# Altium schematic symbol library DSP_Microchip_DSPIC33.SchLib: 19 symbols
Pins are listed as number, name and electrical type; pins without a type are passive.

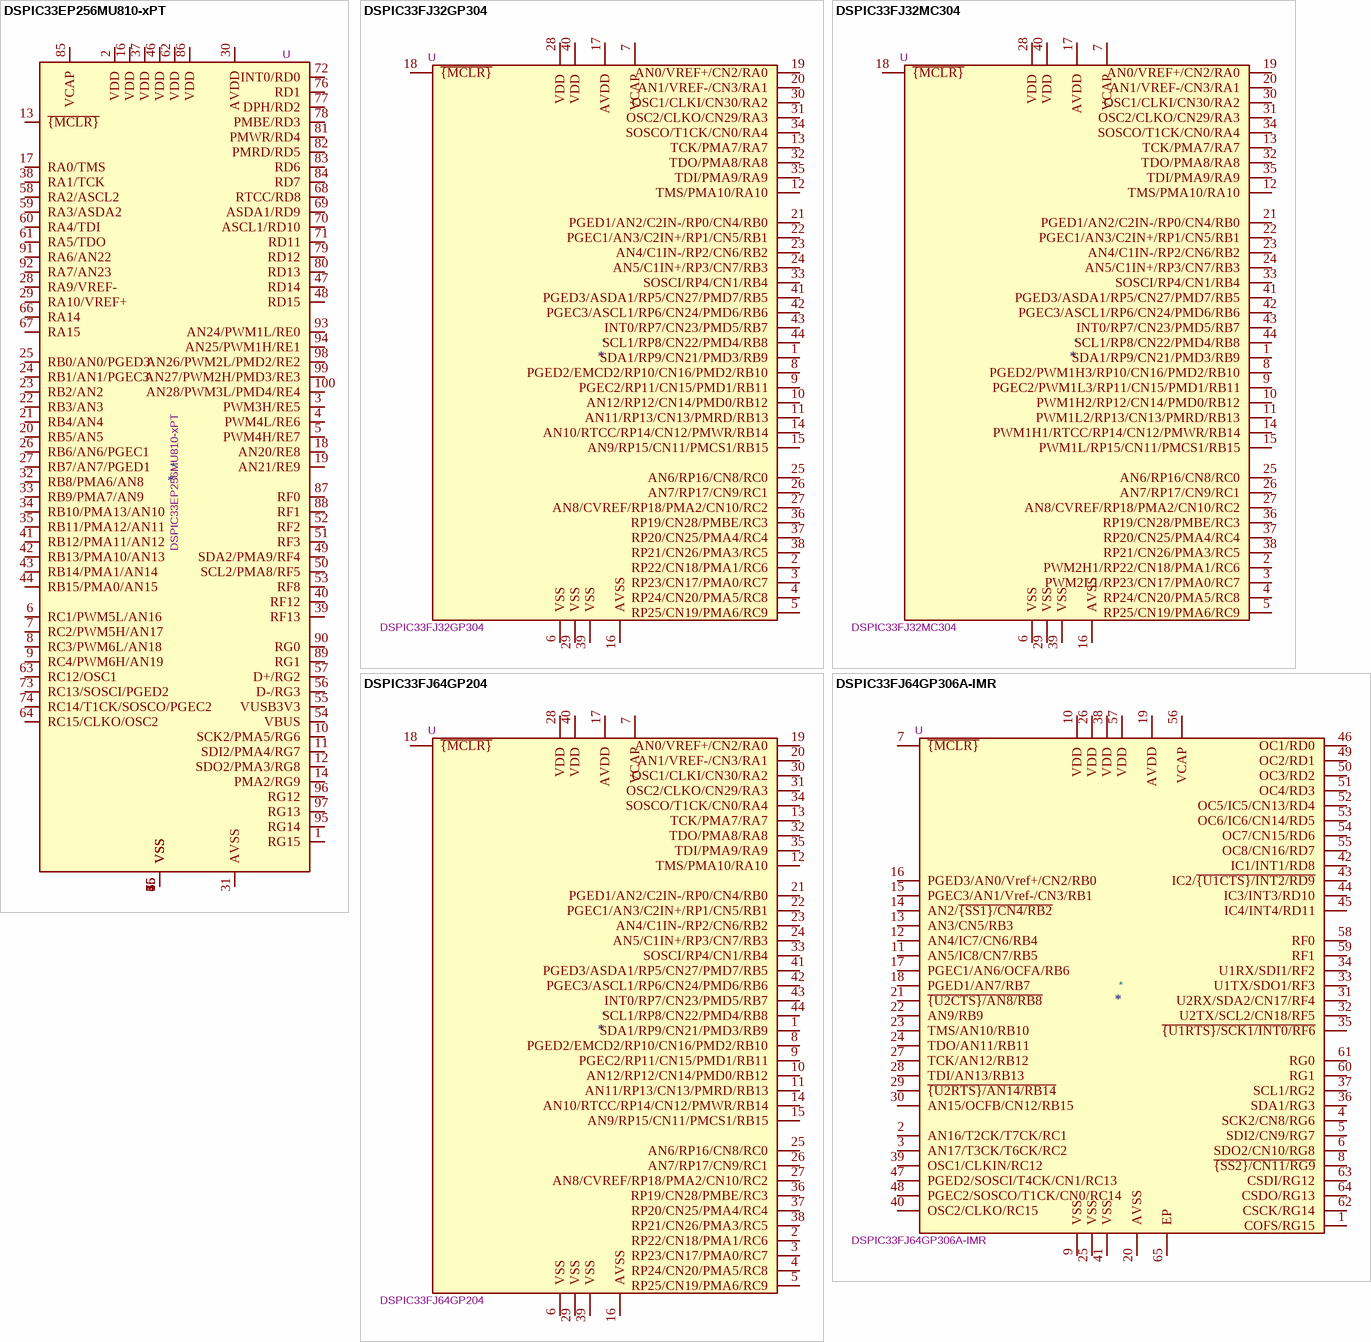
[diagram p0: symbols DSPIC33EP256MU810-xPT to DSPIC33FJ64GP306A-IMR]

## DSPIC33EP256MU810-xPT
designator *  value DSPIC33EP256MU810-xPT  Reference: U
High-Performance, 16-bit Digital Signal Controller, 40MIPS, 256k Flash, 30k SRAM, TQFP-100; ki_keywords: 16-bit Digital Signal Controller Microchip dsPIC; ki_fp_filters: TQFP*14x14mm*P0.5mm*; Footprint: Package_QFP:TQFP-100_14x14mm_P0.5mm; Datasheet: http://ww1.microchip.com/downloads/en/DeviceDoc/70616g.pdf; Description_: High-Performance, 16-bit Digital Signal Controller, 40MIPS, 256k Flash, 30k SRAM, TQFP-100
pins: 1 RG15, 2 VDD, 3 PWM3H/RE5, 4 PWM4L/RE6, 5 PWM4H/RE7, 6 RC1/PWM5L/AN16, 7 RC2/PWM5H/AN17, 8 RC3/PWM6L/AN18, 9 RC4/PWM6H/AN19, 10 SCK2/PMA5/RG6, 11 SDI2/PMA4/RG7, 12 SDO2/PMA3/RG8, 13 ~{{MCLR}}, 14 PMA2/RG9, 15 VSS, 16 VDD, 17 RA0/TMS, 18 AN20/RE8, 19 AN21/RE9, 20 RB5/AN5, 21 RB4/AN4, 22 RB3/AN3, 23 RB2/AN2, 24 RB1/AN1/PGEC3, 25 RB0/AN0/PGED3, 26 RB6/AN6/PGEC1, 27 RB7/AN7/PGED1, 28 RA9/VREF-, 29 RA10/VREF+, 30 AVDD, 31 AVSS, 32 RB8/PMA6/AN8, 33 RB9/PMA7/AN9, 34 RB10/PMA13/AN10, 35 RB11/PMA12/AN11, 36 VSS, 37 VDD, 38 RA1/TCK, 39 RF13, 40 RF12, 41 RB12/PMA11/AN12, 42 RB13/PMA10/AN13, 43 RB14/PMA1/AN14, 44 RB15/PMA0/AN15, 45 VSS, 46 VDD, 47 RD14, 48 RD15, 49 SDA2/PMA9/RF4, 50 SCL2/PMA8/RF5, 51 RF3, 52 RF2, 53 RF8, 54 VBUS, 55 VUSB3V3, 56 D-/RG3, 57 D+/RG2, 58 RA2/ASCL2, 59 RA3/ASDA2, 60 RA4/TDI, 61 RA5/TDO, 62 VDD, 63 RC12/OSC1, 64 RC15/CLKO/OSC2, 65 VSS, 66 RA14, 67 RA15, 68 RTCC/RD8, 69 ASDA1/RD9, 70 ASCL1/RD10, 71 RD11, 72 INT0/RD0, 73 RC13/SOSCI/PGED2, 74 RC14/T1CK/SOSCO/PGEC2, 75 VSS, 76 RD1, 77 DPH/RD2, 78 PMBE/RD3, 79 RD12, 80 RD13, 81 PMWR/RD4, 82 PMRD/RD5, 83 RD6, 84 RD7, 85 VCAP, 86 VDD, 87 RF0, 88 RF1, 89 RG1, 90 RG0, 91 RA6/AN22, 92 RA7/AN23, 93 AN24/PWM1L/RE0, 94 AN25/PWM1H/RE1, 95 RG14, 96 RG12, 97 RG13, 98 AN26/PWM2L/PMD2/RE2, 99 AN27/PWM2H/PMD3/RE3, 100 AN28/PWM3L/PMD4/RE4

## DSPIC33FJ32GP304
designator *  value DSPIC33FJ32GP304  Reference: U
40MIPS, 32k Flash, 4k SRAM; ki_keywords: 16-bit Digital Signal Controller Microchip dsPIC; ki_fp_filters: QFN?44*1EP*8x8mm*P0.65mm* TQFP?44*10x10mm*P0.8mm*; Datasheet: http://ww1.microchip.com/downloads/en/DeviceDoc/70292G.pdf; Description_: 40MIPS, 32k Flash, 4k SRAM
pins: 1 SDA1/RP9/CN21/PMD3/RB9, 2 RP22/CN18/PMA1/RC6, 3 RP23/CN17/PMA0/RC7, 4 RP24/CN20/PMA5/RC8, 5 RP25/CN19/PMA6/RC9, 6 VSS, 7 VCAP, 8 PGED2/EMCD2/RP10/CN16/PMD2/RB10, 9 PGEC2/RP11/CN15/PMD1/RB11, 10 AN12/RP12/CN14/PMD0/RB12, 11 AN11/RP13/CN13/PMRD/RB13, 12 TMS/PMA10/RA10, 13 TCK/PMA7/RA7, 14 AN10/RTCC/RP14/CN12/PMWR/RB14, 15 AN9/RP15/CN11/PMCS1/RB15, 16 AVSS, 17 AVDD, 18 ~{{MCLR}}, 19 AN0/VREF+/CN2/RA0, 20 AN1/VREF-/CN3/RA1, 21 PGED1/AN2/C2IN-/RP0/CN4/RB0, 22 PGEC1/AN3/C2IN+/RP1/CN5/RB1, 23 AN4/C1IN-/RP2/CN6/RB2, 24 AN5/C1IN+/RP3/CN7/RB3, 25 AN6/RP16/CN8/RC0, 26 AN7/RP17/CN9/RC1, 27 AN8/CVREF/RP18/PMA2/CN10/RC2, 28 VDD, 29 VSS, 30 OSC1/CLKI/CN30/RA2, 31 OSC2/CLKO/CN29/RA3, 32 TDO/PMA8/RA8, 33 SOSCI/RP4/CN1/RB4, 34 SOSCO/T1CK/CN0/RA4, 35 TDI/PMA9/RA9, 36 RP19/CN28/PMBE/RC3, 37 RP20/CN25/PMA4/RC4, 38 RP21/CN26/PMA3/RC5, 39 VSS, 40 VDD, 41 PGED3/ASDA1/RP5/CN27/PMD7/RB5, 42 PGEC3/ASCL1/RP6/CN24/PMD6/RB6, 43 INT0/RP7/CN23/PMD5/RB7, 44 SCL1/RP8/CN22/PMD4/RB8

## DSPIC33FJ32MC304
designator *  value DSPIC33FJ32MC304  Reference: U
40MIPS, 32k Flash, 8k SRAM; ki_keywords: 16-bit Digital Signal Controller Microchip dsPIC Motor Control; ki_fp_filters: QFN?44*1EP*8x8mm*P0.65mm* TQFP?44*10x10mm*P0.8mm*; Datasheet: http://ww1.microchip.com/downloads/en/DeviceDoc/70291G.pdf; Description_: 40MIPS, 32k Flash, 8k SRAM
pins: 1 SDA1/RP9/CN21/PMD3/RB9, 2 PWM2H1/RP22/CN18/PMA1/RC6, 3 PWM2L1/RP23/CN17/PMA0/RC7, 4 RP24/CN20/PMA5/RC8, 5 RP25/CN19/PMA6/RC9, 6 VSS, 7 VCAP, 8 PGED2/PWM1H3/RP10/CN16/PMD2/RB10, 9 PGEC2/PWM1L3/RP11/CN15/PMD1/RB11, 10 PWM1H2/RP12/CN14/PMD0/RB12, 11 PWM1L2/RP13/CN13/PMRD/RB13, 12 TMS/PMA10/RA10, 13 TCK/PMA7/RA7, 14 PWM1H1/RTCC/RP14/CN12/PMWR/RB14, 15 PWM1L/RP15/CN11/PMCS1/RB15, 16 AVSS, 17 AVDD, 18 ~{{MCLR}}, 19 AN0/VREF+/CN2/RA0, 20 AN1/VREF-/CN3/RA1, 21 PGED1/AN2/C2IN-/RP0/CN4/RB0, 22 PGEC1/AN3/C2IN+/RP1/CN5/RB1, 23 AN4/C1IN-/RP2/CN6/RB2, 24 AN5/C1IN+/RP3/CN7/RB3, 25 AN6/RP16/CN8/RC0, 26 AN7/RP17/CN9/RC1, 27 AN8/CVREF/RP18/PMA2/CN10/RC2, 28 VDD, 29 VSS, 30 OSC1/CLKI/CN30/RA2, 31 OSC2/CLKO/CN29/RA3, 32 TDO/PMA8/RA8, 33 SOSCI/RP4/CN1/RB4, 34 SOSCO/T1CK/CN0/RA4, 35 TDI/PMA9/RA9, 36 RP19/CN28/PMBE/RC3, 37 RP20/CN25/PMA4/RC4, 38 RP21/CN26/PMA3/RC5, 39 VSS, 40 VDD, 41 PGED3/ASDA1/RP5/CN27/PMD7/RB5, 42 PGEC3/ASCL1/RP6/CN24/PMD6/RB6, 43 INT0/RP7/CN23/PMD5/RB7, 44 SCL1/RP8/CN22/PMD4/RB8

## DSPIC33FJ64GP204
designator *  value DSPIC33FJ64GP204  Reference: U
40MIPS, 64k Flash, 8k SRAM; ki_keywords: 16-bit Digital Signal Controller Microchip dsPIC; ki_fp_filters: QFN?44*1EP*8x8mm*P0.65mm* TQFP?44*10x10mm*P0.8mm*; Datasheet: http://ww1.microchip.com/downloads/en/DeviceDoc/70292G.pdf; Description_: 40MIPS, 64k Flash, 8k SRAM
pins: 1 SDA1/RP9/CN21/PMD3/RB9, 2 RP22/CN18/PMA1/RC6, 3 RP23/CN17/PMA0/RC7, 4 RP24/CN20/PMA5/RC8, 5 RP25/CN19/PMA6/RC9, 6 VSS, 7 VCAP, 8 PGED2/EMCD2/RP10/CN16/PMD2/RB10, 9 PGEC2/RP11/CN15/PMD1/RB11, 10 AN12/RP12/CN14/PMD0/RB12, 11 AN11/RP13/CN13/PMRD/RB13, 12 TMS/PMA10/RA10, 13 TCK/PMA7/RA7, 14 AN10/RTCC/RP14/CN12/PMWR/RB14, 15 AN9/RP15/CN11/PMCS1/RB15, 16 AVSS, 17 AVDD, 18 ~{{MCLR}}, 19 AN0/VREF+/CN2/RA0, 20 AN1/VREF-/CN3/RA1, 21 PGED1/AN2/C2IN-/RP0/CN4/RB0, 22 PGEC1/AN3/C2IN+/RP1/CN5/RB1, 23 AN4/C1IN-/RP2/CN6/RB2, 24 AN5/C1IN+/RP3/CN7/RB3, 25 AN6/RP16/CN8/RC0, 26 AN7/RP17/CN9/RC1, 27 AN8/CVREF/RP18/PMA2/CN10/RC2, 28 VDD, 29 VSS, 30 OSC1/CLKI/CN30/RA2, 31 OSC2/CLKO/CN29/RA3, 32 TDO/PMA8/RA8, 33 SOSCI/RP4/CN1/RB4, 34 SOSCO/T1CK/CN0/RA4, 35 TDI/PMA9/RA9, 36 RP19/CN28/PMBE/RC3, 37 RP20/CN25/PMA4/RC4, 38 RP21/CN26/PMA3/RC5, 39 VSS, 40 VDD, 41 PGED3/ASDA1/RP5/CN27/PMD7/RB5, 42 PGEC3/ASCL1/RP6/CN24/PMD6/RB6, 43 INT0/RP7/CN23/PMD5/RB7, 44 SCL1/RP8/CN22/PMD4/RB8

## DSPIC33FJ64GP306A-IMR
designator *  value DSPIC33FJ64GP306A-IMR  Reference: U
40MIPS, 64k Flash, 16k SRAM, QFN-64; ki_keywords: 16-bit Digital Signal Controller Microchip dsPIC; ki_fp_filters: QFN*9x9mm*P0.5mm*; Footprint: Package_DFN_QFN:QFN-64-1EP_9x9mm_P0.5mm_EP5.4x5.4mm; Datasheet: http://ww1.microchip.com/downloads/en/DeviceDoc/70593d.pdf; Description_: 40MIPS, 64k Flash, 16k SRAM, QFN-64
pins: 1 COFS/RG15, 2 AN16/T2CK/T7CK/RC1, 3 AN17/T3CK/T6CK/RC2, 4 SCK2/CN8/RG6, 5 SDI2/CN9/RG7, 6 SDO2/CN10/RG8, 7 ~{{MCLR}}, 8 ~{{SS2}/CN11/RG9}, 9 VSS, 10 VDD, 11 AN5/IC8/CN7/RB5, 12 AN4/IC7/CN6/RB4, 13 AN3/CN5/RB3, 14 AN2/~{{SS1}/CN4/RB2}, 15 PGEC3/AN1/Vref-/CN3/RB1, 16 PGED3/AN0/Vref+/CN2/RB0, 17 PGEC1/AN6/OCFA/RB6, 18 PGED1/AN7/RB7, 19 AVDD, 20 AVSS, 21 ~{{U2CTS}/AN8/RB8}, 22 AN9/RB9, 23 TMS/AN10/RB10, 24 TDO/AN11/RB11, 25 VSS, 26 VDD, 27 TCK/AN12/RB12, 28 TDI/AN13/RB13, 29 ~{{U2RTS}/AN14/RB14}, 30 AN15/OCFB/CN12/RB15, 31 U2RX/SDA2/CN17/RF4, 32 U2TX/SCL2/CN18/RF5, 33 U1TX/SDO1/RF3, 34 U1RX/SDI1/RF2, 35 ~{{U1RTS}/SCK1/INT0/RF6}, 36 SDA1/RG3, 37 SCL1/RG2, 38 VDD, 39 OSC1/CLKIN/RC12, 40 OSC2/CLKO/RC15, 41 VSS, 42 IC1/INT1/RD8, 43 IC2/~{{U1CTS}/INT2/RD9}, 44 IC3/INT3/RD10, 45 IC4/INT4/RD11, 46 OC1/RD0, 47 PGED2/SOSCI/T4CK/CN1/RC13, 48 PGEC2/SOSCO/T1CK/CN0/RC14, 49 OC2/RD1, 50 OC3/RD2, 51 OC4/RD3, 52 OC5/IC5/CN13/RD4, 53 OC6/IC6/CN14/RD5, 54 OC7/CN15/RD6, 55 OC8/CN16/RD7, 56 VCAP, 57 VDD, 58 RF0, 59 RF1, 60 RG1, 61 RG0, 62 CSCK/RG14, 63 CSDI/RG12, 64 CSDO/RG13, 65 EP

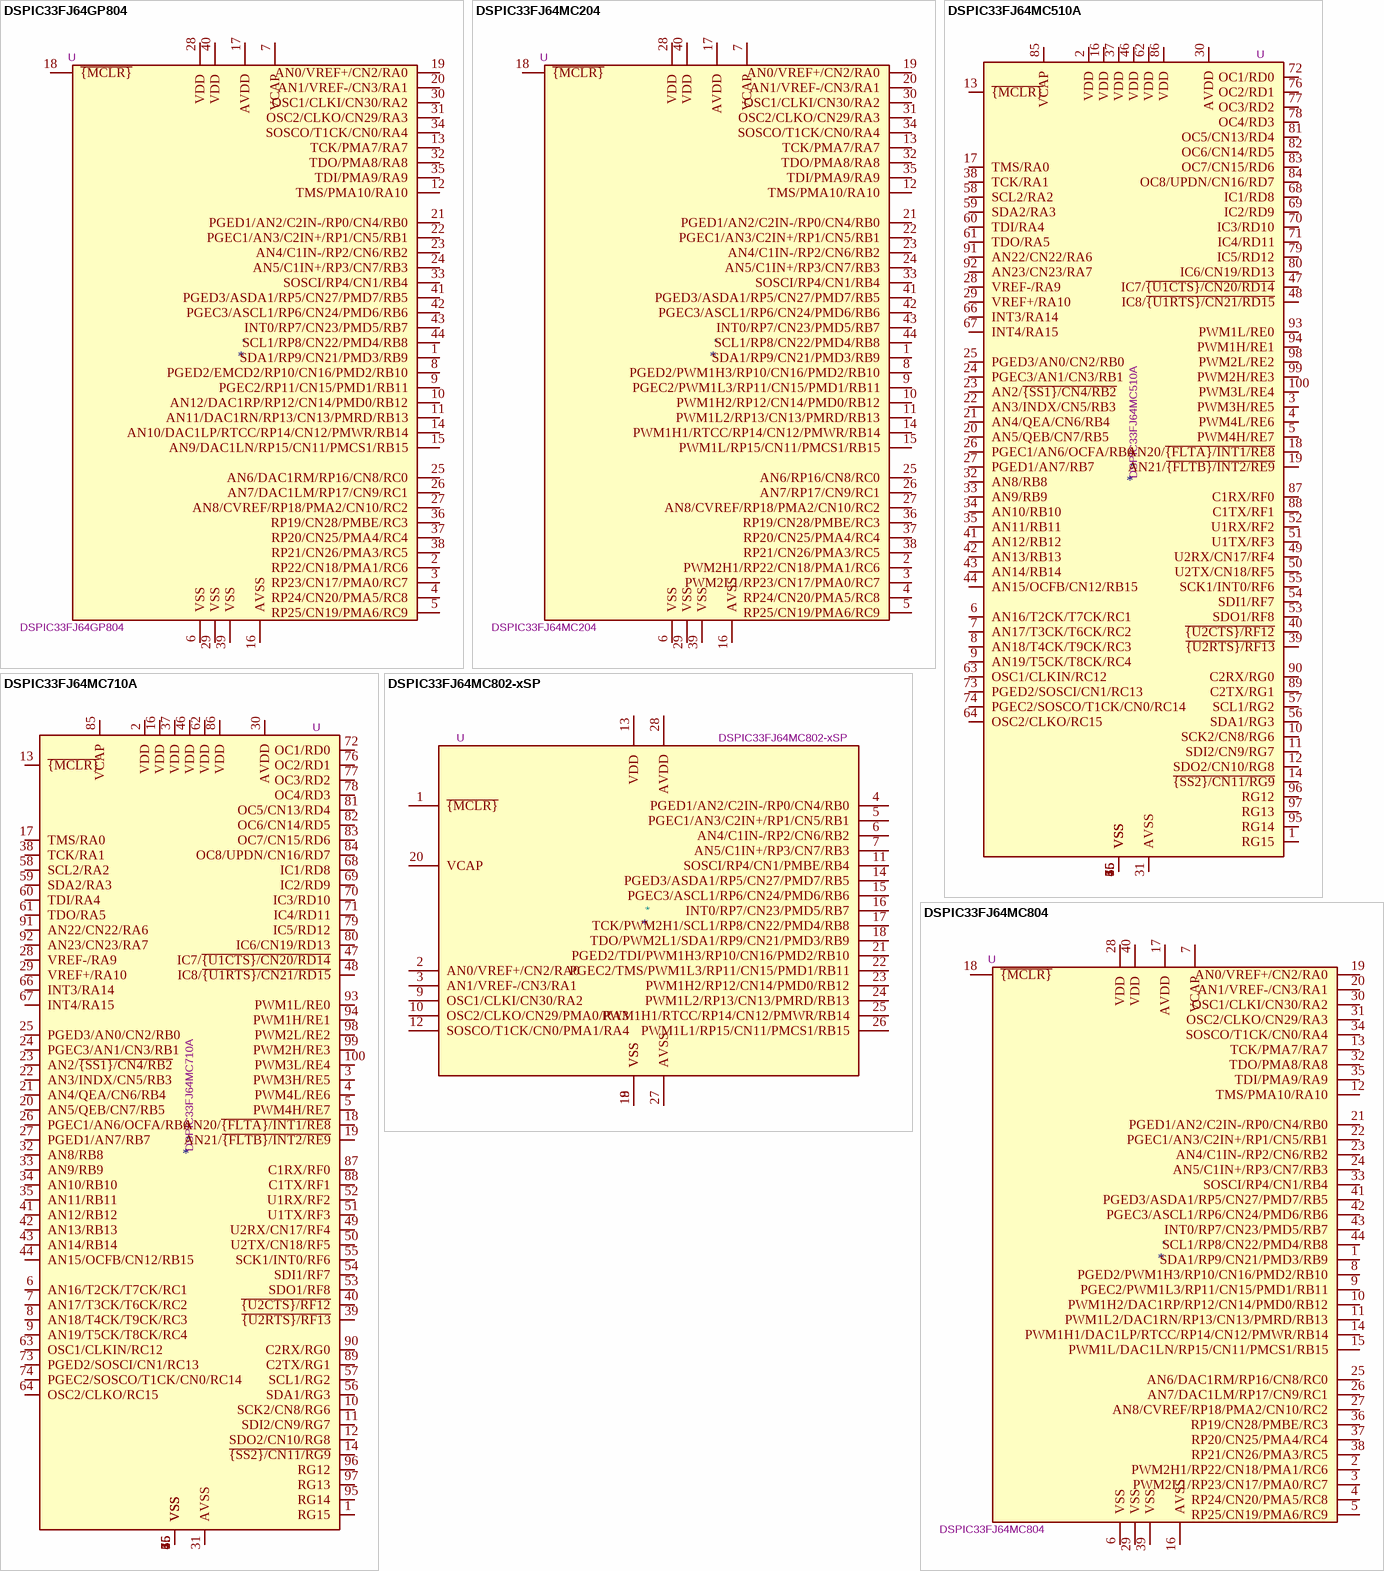
[diagram p1: symbols DSPIC33FJ64GP804 to DSPIC33FJ64MC804]

## DSPIC33FJ64GP804
designator *  value DSPIC33FJ64GP804  Reference: U
40MIPS, 64k Flash, 16k SRAM, ECAN, Audio DAC; ki_keywords: 16-bit Digital Signal Controller Microchip dsPIC33; ki_fp_filters: QFN?44*1EP*8x8mm*P0.65mm* TQFP?44*10x10mm*P0.8mm*; Datasheet: http://ww1.microchip.com/downloads/en/DeviceDoc/70292G.pdf; Description_: 40MIPS, 64k Flash, 16k SRAM, ECAN, Audio DAC
pins: 1 SDA1/RP9/CN21/PMD3/RB9, 2 RP22/CN18/PMA1/RC6, 3 RP23/CN17/PMA0/RC7, 4 RP24/CN20/PMA5/RC8, 5 RP25/CN19/PMA6/RC9, 6 VSS, 7 VCAP, 8 PGED2/EMCD2/RP10/CN16/PMD2/RB10, 9 PGEC2/RP11/CN15/PMD1/RB11, 10 AN12/DAC1RP/RP12/CN14/PMD0/RB12, 11 AN11/DAC1RN/RP13/CN13/PMRD/RB13, 12 TMS/PMA10/RA10, 13 TCK/PMA7/RA7, 14 AN10/DAC1LP/RTCC/RP14/CN12/PMWR/RB14, 15 AN9/DAC1LN/RP15/CN11/PMCS1/RB15, 16 AVSS, 17 AVDD, 18 ~{{MCLR}}, 19 AN0/VREF+/CN2/RA0, 20 AN1/VREF-/CN3/RA1, 21 PGED1/AN2/C2IN-/RP0/CN4/RB0, 22 PGEC1/AN3/C2IN+/RP1/CN5/RB1, 23 AN4/C1IN-/RP2/CN6/RB2, 24 AN5/C1IN+/RP3/CN7/RB3, 25 AN6/DAC1RM/RP16/CN8/RC0, 26 AN7/DAC1LM/RP17/CN9/RC1, 27 AN8/CVREF/RP18/PMA2/CN10/RC2, 28 VDD, 29 VSS, 30 OSC1/CLKI/CN30/RA2, 31 OSC2/CLKO/CN29/RA3, 32 TDO/PMA8/RA8, 33 SOSCI/RP4/CN1/RB4, 34 SOSCO/T1CK/CN0/RA4, 35 TDI/PMA9/RA9, 36 RP19/CN28/PMBE/RC3, 37 RP20/CN25/PMA4/RC4, 38 RP21/CN26/PMA3/RC5, 39 VSS, 40 VDD, 41 PGED3/ASDA1/RP5/CN27/PMD7/RB5, 42 PGEC3/ASCL1/RP6/CN24/PMD6/RB6, 43 INT0/RP7/CN23/PMD5/RB7, 44 SCL1/RP8/CN22/PMD4/RB8

## DSPIC33FJ64MC204
designator *  value DSPIC33FJ64MC204  Reference: U
40MIPS, 64k Flash, 8k SRAM; ki_keywords: 16-bit Digital Signal Controller Microchip dsPIC Motor Control; ki_fp_filters: QFN?44*1EP*8x8mm*P0.65mm* TQFP?44*10x10mm*P0.8mm*; Datasheet: http://ww1.microchip.com/downloads/en/DeviceDoc/70291G.pdf; Description_: 40MIPS, 64k Flash, 8k SRAM
pins: 1 SDA1/RP9/CN21/PMD3/RB9, 2 PWM2H1/RP22/CN18/PMA1/RC6, 3 PWM2L1/RP23/CN17/PMA0/RC7, 4 RP24/CN20/PMA5/RC8, 5 RP25/CN19/PMA6/RC9, 6 VSS, 7 VCAP, 8 PGED2/PWM1H3/RP10/CN16/PMD2/RB10, 9 PGEC2/PWM1L3/RP11/CN15/PMD1/RB11, 10 PWM1H2/RP12/CN14/PMD0/RB12, 11 PWM1L2/RP13/CN13/PMRD/RB13, 12 TMS/PMA10/RA10, 13 TCK/PMA7/RA7, 14 PWM1H1/RTCC/RP14/CN12/PMWR/RB14, 15 PWM1L/RP15/CN11/PMCS1/RB15, 16 AVSS, 17 AVDD, 18 ~{{MCLR}}, 19 AN0/VREF+/CN2/RA0, 20 AN1/VREF-/CN3/RA1, 21 PGED1/AN2/C2IN-/RP0/CN4/RB0, 22 PGEC1/AN3/C2IN+/RP1/CN5/RB1, 23 AN4/C1IN-/RP2/CN6/RB2, 24 AN5/C1IN+/RP3/CN7/RB3, 25 AN6/RP16/CN8/RC0, 26 AN7/RP17/CN9/RC1, 27 AN8/CVREF/RP18/PMA2/CN10/RC2, 28 VDD, 29 VSS, 30 OSC1/CLKI/CN30/RA2, 31 OSC2/CLKO/CN29/RA3, 32 TDO/PMA8/RA8, 33 SOSCI/RP4/CN1/RB4, 34 SOSCO/T1CK/CN0/RA4, 35 TDI/PMA9/RA9, 36 RP19/CN28/PMBE/RC3, 37 RP20/CN25/PMA4/RC4, 38 RP21/CN26/PMA3/RC5, 39 VSS, 40 VDD, 41 PGED3/ASDA1/RP5/CN27/PMD7/RB5, 42 PGEC3/ASCL1/RP6/CN24/PMD6/RB6, 43 INT0/RP7/CN23/PMD5/RB7, 44 SCL1/RP8/CN22/PMD4/RB8

## DSPIC33FJ64MC510A
designator *  value DSPIC33FJ64MC510A  Reference: U
High-Performance, 16-bit Digital Signal Controller, 40MIPS, 64k Flash, 8k SRAM, TQFP-100; ki_keywords: 16-bit Digital Signal Controller Microchip dsPIC; ki_fp_filters: TQFP*12x12mm*P0.4mm* TQFP*14x14mm*P0.5mm*; Datasheet: http://ww1.microchip.com/downloads/en/DeviceDoc/70594C.pdf; Description_: High-Performance, 16-bit Digital Signal Controller, 40MIPS, 64k Flash, 8k SRAM, TQFP-100
pins: 1 RG15, 2 VDD, 3 PWM3H/RE5, 4 PWM4L/RE6, 5 PWM4H/RE7, 6 AN16/T2CK/T7CK/RC1, 7 AN17/T3CK/T6CK/RC2, 8 AN18/T4CK/T9CK/RC3, 9 AN19/T5CK/T8CK/RC4, 10 SCK2/CN8/RG6, 11 SDI2/CN9/RG7, 12 SDO2/CN10/RG8, 13 ~{{MCLR}}, 14 ~{{SS2}/CN11/RG9}, 15 VSS, 16 VDD, 17 TMS/RA0, 18 AN20/~{{FLTA}/INT1/RE8}, 19 AN21/~{{FLTB}/INT2/RE9}, 20 AN5/QEB/CN7/RB5, 21 AN4/QEA/CN6/RB4, 22 AN3/INDX/CN5/RB3, 23 AN2/~{{SS1}/CN4/RB2}, 24 PGEC3/AN1/CN3/RB1, 25 PGED3/AN0/CN2/RB0, 26 PGEC1/AN6/OCFA/RB6, 27 PGED1/AN7/RB7, 28 VREF-/RA9, 29 VREF+/RA10, 30 AVDD, 31 AVSS, 32 AN8/RB8, 33 AN9/RB9, 34 AN10/RB10, 35 AN11/RB11, 36 VSS, 37 VDD, 38 TCK/RA1, 39 ~{{U2RTS}/RF13}, 40 ~{{U2CTS}/RF12}, 41 AN12/RB12, 42 AN13/RB13, 43 AN14/RB14, 44 AN15/OCFB/CN12/RB15, 45 VSS, 46 VDD, 47 IC7/~{{U1CTS}/CN20/RD14}, 48 IC8/~{{U1RTS}/CN21/RD15}, 49 U2RX/CN17/RF4, 50 U2TX/CN18/RF5, 51 U1TX/RF3, 52 U1RX/RF2, 53 SDO1/RF8, 54 SDI1/RF7, 55 SCK1/INT0/RF6, 56 SDA1/RG3, 57 SCL1/RG2, 58 SCL2/RA2, 59 SDA2/RA3, 60 TDI/RA4, 61 TDO/RA5, 62 VDD, 63 OSC1/CLKIN/RC12, 64 OSC2/CLKO/RC15, 65 VSS, 66 INT3/RA14, 67 INT4/RA15, 68 IC1/RD8, 69 IC2/RD9, 70 IC3/RD10, 71 IC4/RD11, 72 OC1/RD0, 73 PGED2/SOSCI/CN1/RC13, 74 PGEC2/SOSCO/T1CK/CN0/RC14, 75 VSS, 76 OC2/RD1, 77 OC3/RD2, 78 OC4/RD3, 79 IC5/RD12, 80 IC6/CN19/RD13, 81 OC5/CN13/RD4, 82 OC6/CN14/RD5, 83 OC7/CN15/RD6, 84 OC8/UPDN/CN16/RD7, 85 VCAP, 86 VDD, 87 C1RX/RF0, 88 C1TX/RF1, 89 C2TX/RG1, 90 C2RX/RG0, 91 AN22/CN22/RA6, 92 AN23/CN23/RA7, 93 PWM1L/RE0, 94 PWM1H/RE1, 95 RG14, 96 RG12, 97 RG13, 98 PWM2L/RE2, 99 PWM2H/RE3, 100 PWM3L/RE4

## DSPIC33FJ64MC710A
designator *  value DSPIC33FJ64MC710A  Reference: U
High-Performance, 16-bit Digital Signal Controller, 40MIPS, 64k Flash, 16k SRAM, TQFP-100; ki_keywords: 16-bit Digital Signal Controller Microchip dsPIC; ki_fp_filters: TQFP*12x12mm*P0.4mm* TQFP*14x14mm*P0.5mm*; Datasheet: http://ww1.microchip.com/downloads/en/DeviceDoc/70594C.pdf; Description_: High-Performance, 16-bit Digital Signal Controller, 40MIPS, 64k Flash, 16k SRAM, TQFP-100
pins: 1 RG15, 2 VDD, 3 PWM3H/RE5, 4 PWM4L/RE6, 5 PWM4H/RE7, 6 AN16/T2CK/T7CK/RC1, 7 AN17/T3CK/T6CK/RC2, 8 AN18/T4CK/T9CK/RC3, 9 AN19/T5CK/T8CK/RC4, 10 SCK2/CN8/RG6, 11 SDI2/CN9/RG7, 12 SDO2/CN10/RG8, 13 ~{{MCLR}}, 14 ~{{SS2}/CN11/RG9}, 15 VSS, 16 VDD, 17 TMS/RA0, 18 AN20/~{{FLTA}/INT1/RE8}, 19 AN21/~{{FLTB}/INT2/RE9}, 20 AN5/QEB/CN7/RB5, 21 AN4/QEA/CN6/RB4, 22 AN3/INDX/CN5/RB3, 23 AN2/~{{SS1}/CN4/RB2}, 24 PGEC3/AN1/CN3/RB1, 25 PGED3/AN0/CN2/RB0, 26 PGEC1/AN6/OCFA/RB6, 27 PGED1/AN7/RB7, 28 VREF-/RA9, 29 VREF+/RA10, 30 AVDD, 31 AVSS, 32 AN8/RB8, 33 AN9/RB9, 34 AN10/RB10, 35 AN11/RB11, 36 VSS, 37 VDD, 38 TCK/RA1, 39 ~{{U2RTS}/RF13}, 40 ~{{U2CTS}/RF12}, 41 AN12/RB12, 42 AN13/RB13, 43 AN14/RB14, 44 AN15/OCFB/CN12/RB15, 45 VSS, 46 VDD, 47 IC7/~{{U1CTS}/CN20/RD14}, 48 IC8/~{{U1RTS}/CN21/RD15}, 49 U2RX/CN17/RF4, 50 U2TX/CN18/RF5, 51 U1TX/RF3, 52 U1RX/RF2, 53 SDO1/RF8, 54 SDI1/RF7, 55 SCK1/INT0/RF6, 56 SDA1/RG3, 57 SCL1/RG2, 58 SCL2/RA2, 59 SDA2/RA3, 60 TDI/RA4, 61 TDO/RA5, 62 VDD, 63 OSC1/CLKIN/RC12, 64 OSC2/CLKO/RC15, 65 VSS, 66 INT3/RA14, 67 INT4/RA15, 68 IC1/RD8, 69 IC2/RD9, 70 IC3/RD10, 71 IC4/RD11, 72 OC1/RD0, 73 PGED2/SOSCI/CN1/RC13, 74 PGEC2/SOSCO/T1CK/CN0/RC14, 75 VSS, 76 OC2/RD1, 77 OC3/RD2, 78 OC4/RD3, 79 IC5/RD12, 80 IC6/CN19/RD13, 81 OC5/CN13/RD4, 82 OC6/CN14/RD5, 83 OC7/CN15/RD6, 84 OC8/UPDN/CN16/RD7, 85 VCAP, 86 VDD, 87 C1RX/RF0, 88 C1TX/RF1, 89 C2TX/RG1, 90 C2RX/RG0, 91 AN22/CN22/RA6, 92 AN23/CN23/RA7, 93 PWM1L/RE0, 94 PWM1H/RE1, 95 RG14, 96 RG12, 97 RG13, 98 PWM2L/RE2, 99 PWM2H/RE3, 100 PWM3L/RE4

## DSPIC33FJ64MC802-xSP
designator *  value DSPIC33FJ64MC802-xSP  Reference: U
40 MIPS, 64k Flash, 16k SRAM, DIP-28; ki_keywords: 16-bit Digital Signal Controller Microchip dsPIC; ki_fp_filters: DIP*W7.62mm*; Footprint: Package_DIP:DIP-28_W7.62mm; Datasheet: http://ww1.microchip.com/downloads/en/DeviceDoc/70291G.pdf; Description_: 40 MIPS, 64k Flash, 16k SRAM, DIP-28
pins: 1 ~{{MCLR}}, 2 AN0/VREF+/CN2/RA0, 3 AN1/VREF-/CN3/RA1, 4 PGED1/AN2/C2IN-/RP0/CN4/RB0, 5 PGEC1/AN3/C2IN+/RP1/CN5/RB1, 6 AN4/C1IN-/RP2/CN6/RB2, 7 AN5/C1IN+/RP3/CN7/RB3, 8 VSS, 9 OSC1/CLKI/CN30/RA2, 10 OSC2/CLKO/CN29/PMA0/RA3, 11 SOSCI/RP4/CN1/PMBE/RB4, 12 SOSCO/T1CK/CN0/PMA1/RA4, 13 VDD, 14 PGED3/ASDA1/RP5/CN27/PMD7/RB5, 15 PGEC3/ASCL1/RP6/CN24/PMD6/RB6, 16 INT0/RP7/CN23/PMD5/RB7, 17 TCK/PWM2H1/SCL1/RP8/CN22/PMD4/RB8, 18 TDO/PWM2L1/SDA1/RP9/CN21/PMD3/RB9, 19 VSS, 20 VCAP, 21 PGED2/TDI/PWM1H3/RP10/CN16/PMD2/RB10, 22 PGEC2/TMS/PWM1L3/RP11/CN15/PMD1/RB11, 23 PWM1H2/RP12/CN14/PMD0/RB12, 24 PWM1L2/RP13/CN13/PMRD/RB13, 25 PWM1H1/RTCC/RP14/CN12/PMWR/RB14, 26 PWM1L1/RP15/CN11/PMCS1/RB15, 27 AVSS, 28 AVDD

## DSPIC33FJ64MC804
designator *  value DSPIC33FJ64MC804  Reference: U
40MIPS, 64k Flash, 16k SRAM, ECAN, 16-bit DAC; ki_keywords: 16-bit Digital Signal Controller Microchip dsPIC Motor Control; ki_fp_filters: QFN?44*1EP*8x8mm*P0.65mm* TQFP?44*10x10mm*P0.8mm*; Datasheet: http://ww1.microchip.com/downloads/en/DeviceDoc/70291G.pdf; Description_: 40MIPS, 64k Flash, 16k SRAM, ECAN, 16-bit DAC
pins: 1 SDA1/RP9/CN21/PMD3/RB9, 2 PWM2H1/RP22/CN18/PMA1/RC6, 3 PWM2L1/RP23/CN17/PMA0/RC7, 4 RP24/CN20/PMA5/RC8, 5 RP25/CN19/PMA6/RC9, 6 VSS, 7 VCAP, 8 PGED2/PWM1H3/RP10/CN16/PMD2/RB10, 9 PGEC2/PWM1L3/RP11/CN15/PMD1/RB11, 10 PWM1H2/DAC1RP/RP12/CN14/PMD0/RB12, 11 PWM1L2/DAC1RN/RP13/CN13/PMRD/RB13, 12 TMS/PMA10/RA10, 13 TCK/PMA7/RA7, 14 PWM1H1/DAC1LP/RTCC/RP14/CN12/PMWR/RB14, 15 PWM1L/DAC1LN/RP15/CN11/PMCS1/RB15, 16 AVSS, 17 AVDD, 18 ~{{MCLR}}, 19 AN0/VREF+/CN2/RA0, 20 AN1/VREF-/CN3/RA1, 21 PGED1/AN2/C2IN-/RP0/CN4/RB0, 22 PGEC1/AN3/C2IN+/RP1/CN5/RB1, 23 AN4/C1IN-/RP2/CN6/RB2, 24 AN5/C1IN+/RP3/CN7/RB3, 25 AN6/DAC1RM/RP16/CN8/RC0, 26 AN7/DAC1LM/RP17/CN9/RC1, 27 AN8/CVREF/RP18/PMA2/CN10/RC2, 28 VDD, 29 VSS, 30 OSC1/CLKI/CN30/RA2, 31 OSC2/CLKO/CN29/RA3, 32 TDO/PMA8/RA8, 33 SOSCI/RP4/CN1/RB4, 34 SOSCO/T1CK/CN0/RA4, 35 TDI/PMA9/RA9, 36 RP19/CN28/PMBE/RC3, 37 RP20/CN25/PMA4/RC4, 38 RP21/CN26/PMA3/RC5, 39 VSS, 40 VDD, 41 PGED3/ASDA1/RP5/CN27/PMD7/RB5, 42 PGEC3/ASCL1/RP6/CN24/PMD6/RB6, 43 INT0/RP7/CN23/PMD5/RB7, 44 SCL1/RP8/CN22/PMD4/RB8

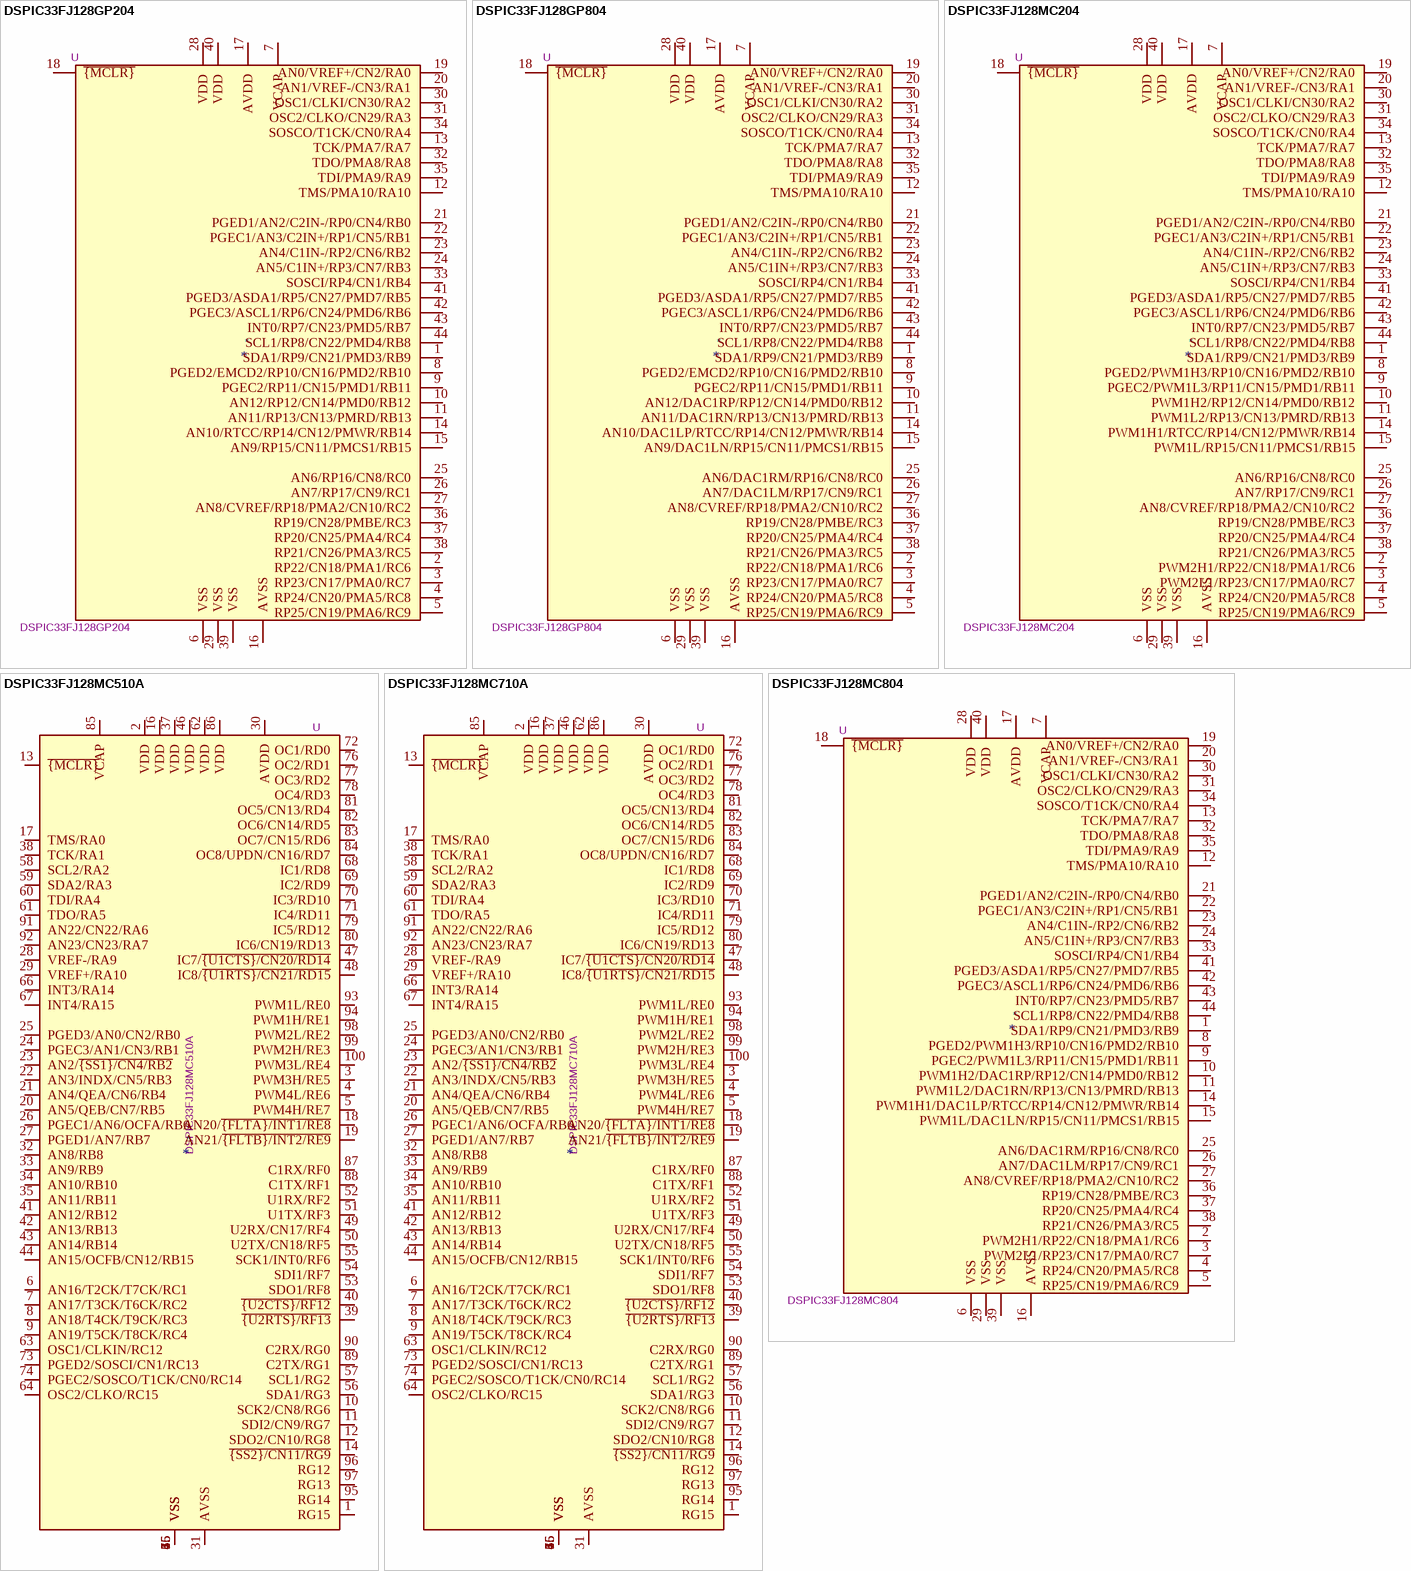
[diagram p2: symbols DSPIC33FJ128GP204 to DSPIC33FJ128MC804]

## DSPIC33FJ128GP204
designator *  value DSPIC33FJ128GP204  Reference: U
40MIPS, 128k Flash, 8k SRAM; ki_keywords: 16-bit Digital Signal Controller Microchip dsPIC; ki_fp_filters: QFN?44*1EP*8x8mm*P0.65mm* TQFP?44*10x10mm*P0.8mm*; Datasheet: http://ww1.microchip.com/downloads/en/DeviceDoc/70292G.pdf; Description_: 40MIPS, 128k Flash, 8k SRAM
pins: 1 SDA1/RP9/CN21/PMD3/RB9, 2 RP22/CN18/PMA1/RC6, 3 RP23/CN17/PMA0/RC7, 4 RP24/CN20/PMA5/RC8, 5 RP25/CN19/PMA6/RC9, 6 VSS, 7 VCAP, 8 PGED2/EMCD2/RP10/CN16/PMD2/RB10, 9 PGEC2/RP11/CN15/PMD1/RB11, 10 AN12/RP12/CN14/PMD0/RB12, 11 AN11/RP13/CN13/PMRD/RB13, 12 TMS/PMA10/RA10, 13 TCK/PMA7/RA7, 14 AN10/RTCC/RP14/CN12/PMWR/RB14, 15 AN9/RP15/CN11/PMCS1/RB15, 16 AVSS, 17 AVDD, 18 ~{{MCLR}}, 19 AN0/VREF+/CN2/RA0, 20 AN1/VREF-/CN3/RA1, 21 PGED1/AN2/C2IN-/RP0/CN4/RB0, 22 PGEC1/AN3/C2IN+/RP1/CN5/RB1, 23 AN4/C1IN-/RP2/CN6/RB2, 24 AN5/C1IN+/RP3/CN7/RB3, 25 AN6/RP16/CN8/RC0, 26 AN7/RP17/CN9/RC1, 27 AN8/CVREF/RP18/PMA2/CN10/RC2, 28 VDD, 29 VSS, 30 OSC1/CLKI/CN30/RA2, 31 OSC2/CLKO/CN29/RA3, 32 TDO/PMA8/RA8, 33 SOSCI/RP4/CN1/RB4, 34 SOSCO/T1CK/CN0/RA4, 35 TDI/PMA9/RA9, 36 RP19/CN28/PMBE/RC3, 37 RP20/CN25/PMA4/RC4, 38 RP21/CN26/PMA3/RC5, 39 VSS, 40 VDD, 41 PGED3/ASDA1/RP5/CN27/PMD7/RB5, 42 PGEC3/ASCL1/RP6/CN24/PMD6/RB6, 43 INT0/RP7/CN23/PMD5/RB7, 44 SCL1/RP8/CN22/PMD4/RB8

## DSPIC33FJ128GP804
designator *  value DSPIC33FJ128GP804  Reference: U
40MIPS, 128k Flash, 16k SRAM, ECAN, Audio DAC; ki_keywords: 16-bit Digital Signal Controller Microchip dsPIC; ki_fp_filters: QFN?44*1EP*8x8mm*P0.65mm* TQFP?44*10x10mm*P0.8mm*; Datasheet: http://ww1.microchip.com/downloads/en/DeviceDoc/70292G.pdf; Description_: 40MIPS, 128k Flash, 16k SRAM, ECAN, Audio DAC
pins: 1 SDA1/RP9/CN21/PMD3/RB9, 2 RP22/CN18/PMA1/RC6, 3 RP23/CN17/PMA0/RC7, 4 RP24/CN20/PMA5/RC8, 5 RP25/CN19/PMA6/RC9, 6 VSS, 7 VCAP, 8 PGED2/EMCD2/RP10/CN16/PMD2/RB10, 9 PGEC2/RP11/CN15/PMD1/RB11, 10 AN12/DAC1RP/RP12/CN14/PMD0/RB12, 11 AN11/DAC1RN/RP13/CN13/PMRD/RB13, 12 TMS/PMA10/RA10, 13 TCK/PMA7/RA7, 14 AN10/DAC1LP/RTCC/RP14/CN12/PMWR/RB14, 15 AN9/DAC1LN/RP15/CN11/PMCS1/RB15, 16 AVSS, 17 AVDD, 18 ~{{MCLR}}, 19 AN0/VREF+/CN2/RA0, 20 AN1/VREF-/CN3/RA1, 21 PGED1/AN2/C2IN-/RP0/CN4/RB0, 22 PGEC1/AN3/C2IN+/RP1/CN5/RB1, 23 AN4/C1IN-/RP2/CN6/RB2, 24 AN5/C1IN+/RP3/CN7/RB3, 25 AN6/DAC1RM/RP16/CN8/RC0, 26 AN7/DAC1LM/RP17/CN9/RC1, 27 AN8/CVREF/RP18/PMA2/CN10/RC2, 28 VDD, 29 VSS, 30 OSC1/CLKI/CN30/RA2, 31 OSC2/CLKO/CN29/RA3, 32 TDO/PMA8/RA8, 33 SOSCI/RP4/CN1/RB4, 34 SOSCO/T1CK/CN0/RA4, 35 TDI/PMA9/RA9, 36 RP19/CN28/PMBE/RC3, 37 RP20/CN25/PMA4/RC4, 38 RP21/CN26/PMA3/RC5, 39 VSS, 40 VDD, 41 PGED3/ASDA1/RP5/CN27/PMD7/RB5, 42 PGEC3/ASCL1/RP6/CN24/PMD6/RB6, 43 INT0/RP7/CN23/PMD5/RB7, 44 SCL1/RP8/CN22/PMD4/RB8

## DSPIC33FJ128MC204
designator *  value DSPIC33FJ128MC204  Reference: U
40MIPS, 128k Flash, 8k SRAM; ki_keywords: 16-bit Digital Signal Controller Microchip dsPIC Motor Control; ki_fp_filters: QFN?44*1EP*8x8mm*P0.65mm* TQFP?44*10x10mm*P0.8mm*; Datasheet: http://ww1.microchip.com/downloads/en/DeviceDoc/70291G.pdf; Description_: 40MIPS, 128k Flash, 8k SRAM
pins: 1 SDA1/RP9/CN21/PMD3/RB9, 2 PWM2H1/RP22/CN18/PMA1/RC6, 3 PWM2L1/RP23/CN17/PMA0/RC7, 4 RP24/CN20/PMA5/RC8, 5 RP25/CN19/PMA6/RC9, 6 VSS, 7 VCAP, 8 PGED2/PWM1H3/RP10/CN16/PMD2/RB10, 9 PGEC2/PWM1L3/RP11/CN15/PMD1/RB11, 10 PWM1H2/RP12/CN14/PMD0/RB12, 11 PWM1L2/RP13/CN13/PMRD/RB13, 12 TMS/PMA10/RA10, 13 TCK/PMA7/RA7, 14 PWM1H1/RTCC/RP14/CN12/PMWR/RB14, 15 PWM1L/RP15/CN11/PMCS1/RB15, 16 AVSS, 17 AVDD, 18 ~{{MCLR}}, 19 AN0/VREF+/CN2/RA0, 20 AN1/VREF-/CN3/RA1, 21 PGED1/AN2/C2IN-/RP0/CN4/RB0, 22 PGEC1/AN3/C2IN+/RP1/CN5/RB1, 23 AN4/C1IN-/RP2/CN6/RB2, 24 AN5/C1IN+/RP3/CN7/RB3, 25 AN6/RP16/CN8/RC0, 26 AN7/RP17/CN9/RC1, 27 AN8/CVREF/RP18/PMA2/CN10/RC2, 28 VDD, 29 VSS, 30 OSC1/CLKI/CN30/RA2, 31 OSC2/CLKO/CN29/RA3, 32 TDO/PMA8/RA8, 33 SOSCI/RP4/CN1/RB4, 34 SOSCO/T1CK/CN0/RA4, 35 TDI/PMA9/RA9, 36 RP19/CN28/PMBE/RC3, 37 RP20/CN25/PMA4/RC4, 38 RP21/CN26/PMA3/RC5, 39 VSS, 40 VDD, 41 PGED3/ASDA1/RP5/CN27/PMD7/RB5, 42 PGEC3/ASCL1/RP6/CN24/PMD6/RB6, 43 INT0/RP7/CN23/PMD5/RB7, 44 SCL1/RP8/CN22/PMD4/RB8

## DSPIC33FJ128MC510A
designator *  value DSPIC33FJ128MC510A  Reference: U
High-Performance, 16-bit Digital Signal Controller, 40MIPS, 128k Flash, 8k SRAM, TQFP-100; ki_keywords: 16-bit Digital Signal Controller Microchip dsPIC; ki_fp_filters: TQFP*12x12mm*P0.4mm* TQFP*14x14mm*P0.5mm*; Datasheet: http://ww1.microchip.com/downloads/en/DeviceDoc/70594C.pdf; Description_: High-Performance, 16-bit Digital Signal Controller, 40MIPS, 128k Flash, 8k SRAM, TQFP-100
pins: 1 RG15, 2 VDD, 3 PWM3H/RE5, 4 PWM4L/RE6, 5 PWM4H/RE7, 6 AN16/T2CK/T7CK/RC1, 7 AN17/T3CK/T6CK/RC2, 8 AN18/T4CK/T9CK/RC3, 9 AN19/T5CK/T8CK/RC4, 10 SCK2/CN8/RG6, 11 SDI2/CN9/RG7, 12 SDO2/CN10/RG8, 13 ~{{MCLR}}, 14 ~{{SS2}/CN11/RG9}, 15 VSS, 16 VDD, 17 TMS/RA0, 18 AN20/~{{FLTA}/INT1/RE8}, 19 AN21/~{{FLTB}/INT2/RE9}, 20 AN5/QEB/CN7/RB5, 21 AN4/QEA/CN6/RB4, 22 AN3/INDX/CN5/RB3, 23 AN2/~{{SS1}/CN4/RB2}, 24 PGEC3/AN1/CN3/RB1, 25 PGED3/AN0/CN2/RB0, 26 PGEC1/AN6/OCFA/RB6, 27 PGED1/AN7/RB7, 28 VREF-/RA9, 29 VREF+/RA10, 30 AVDD, 31 AVSS, 32 AN8/RB8, 33 AN9/RB9, 34 AN10/RB10, 35 AN11/RB11, 36 VSS, 37 VDD, 38 TCK/RA1, 39 ~{{U2RTS}/RF13}, 40 ~{{U2CTS}/RF12}, 41 AN12/RB12, 42 AN13/RB13, 43 AN14/RB14, 44 AN15/OCFB/CN12/RB15, 45 VSS, 46 VDD, 47 IC7/~{{U1CTS}/CN20/RD14}, 48 IC8/~{{U1RTS}/CN21/RD15}, 49 U2RX/CN17/RF4, 50 U2TX/CN18/RF5, 51 U1TX/RF3, 52 U1RX/RF2, 53 SDO1/RF8, 54 SDI1/RF7, 55 SCK1/INT0/RF6, 56 SDA1/RG3, 57 SCL1/RG2, 58 SCL2/RA2, 59 SDA2/RA3, 60 TDI/RA4, 61 TDO/RA5, 62 VDD, 63 OSC1/CLKIN/RC12, 64 OSC2/CLKO/RC15, 65 VSS, 66 INT3/RA14, 67 INT4/RA15, 68 IC1/RD8, 69 IC2/RD9, 70 IC3/RD10, 71 IC4/RD11, 72 OC1/RD0, 73 PGED2/SOSCI/CN1/RC13, 74 PGEC2/SOSCO/T1CK/CN0/RC14, 75 VSS, 76 OC2/RD1, 77 OC3/RD2, 78 OC4/RD3, 79 IC5/RD12, 80 IC6/CN19/RD13, 81 OC5/CN13/RD4, 82 OC6/CN14/RD5, 83 OC7/CN15/RD6, 84 OC8/UPDN/CN16/RD7, 85 VCAP, 86 VDD, 87 C1RX/RF0, 88 C1TX/RF1, 89 C2TX/RG1, 90 C2RX/RG0, 91 AN22/CN22/RA6, 92 AN23/CN23/RA7, 93 PWM1L/RE0, 94 PWM1H/RE1, 95 RG14, 96 RG12, 97 RG13, 98 PWM2L/RE2, 99 PWM2H/RE3, 100 PWM3L/RE4

## DSPIC33FJ128MC710A
designator *  value DSPIC33FJ128MC710A  Reference: U
High-Performance, 16-bit Digital Signal Controller,40MIPS, 128k Flash, 16k SRAM, TQFP-100; ki_keywords: 16-bit Digital Signal Controller Microchip dsPIC; ki_fp_filters: TQFP*12x12mm*P0.4mm* TQFP*14x14mm*P0.5mm*; Datasheet: http://ww1.microchip.com/downloads/en/DeviceDoc/70594C.pdf; Description_: High-Performance, 16-bit Digital Signal Controller,40MIPS, 128k Flash, 16k SRAM, TQFP-100
pins: 1 RG15, 2 VDD, 3 PWM3H/RE5, 4 PWM4L/RE6, 5 PWM4H/RE7, 6 AN16/T2CK/T7CK/RC1, 7 AN17/T3CK/T6CK/RC2, 8 AN18/T4CK/T9CK/RC3, 9 AN19/T5CK/T8CK/RC4, 10 SCK2/CN8/RG6, 11 SDI2/CN9/RG7, 12 SDO2/CN10/RG8, 13 ~{{MCLR}}, 14 ~{{SS2}/CN11/RG9}, 15 VSS, 16 VDD, 17 TMS/RA0, 18 AN20/~{{FLTA}/INT1/RE8}, 19 AN21/~{{FLTB}/INT2/RE9}, 20 AN5/QEB/CN7/RB5, 21 AN4/QEA/CN6/RB4, 22 AN3/INDX/CN5/RB3, 23 AN2/~{{SS1}/CN4/RB2}, 24 PGEC3/AN1/CN3/RB1, 25 PGED3/AN0/CN2/RB0, 26 PGEC1/AN6/OCFA/RB6, 27 PGED1/AN7/RB7, 28 VREF-/RA9, 29 VREF+/RA10, 30 AVDD, 31 AVSS, 32 AN8/RB8, 33 AN9/RB9, 34 AN10/RB10, 35 AN11/RB11, 36 VSS, 37 VDD, 38 TCK/RA1, 39 ~{{U2RTS}/RF13}, 40 ~{{U2CTS}/RF12}, 41 AN12/RB12, 42 AN13/RB13, 43 AN14/RB14, 44 AN15/OCFB/CN12/RB15, 45 VSS, 46 VDD, 47 IC7/~{{U1CTS}/CN20/RD14}, 48 IC8/~{{U1RTS}/CN21/RD15}, 49 U2RX/CN17/RF4, 50 U2TX/CN18/RF5, 51 U1TX/RF3, 52 U1RX/RF2, 53 SDO1/RF8, 54 SDI1/RF7, 55 SCK1/INT0/RF6, 56 SDA1/RG3, 57 SCL1/RG2, 58 SCL2/RA2, 59 SDA2/RA3, 60 TDI/RA4, 61 TDO/RA5, 62 VDD, 63 OSC1/CLKIN/RC12, 64 OSC2/CLKO/RC15, 65 VSS, 66 INT3/RA14, 67 INT4/RA15, 68 IC1/RD8, 69 IC2/RD9, 70 IC3/RD10, 71 IC4/RD11, 72 OC1/RD0, 73 PGED2/SOSCI/CN1/RC13, 74 PGEC2/SOSCO/T1CK/CN0/RC14, 75 VSS, 76 OC2/RD1, 77 OC3/RD2, 78 OC4/RD3, 79 IC5/RD12, 80 IC6/CN19/RD13, 81 OC5/CN13/RD4, 82 OC6/CN14/RD5, 83 OC7/CN15/RD6, 84 OC8/UPDN/CN16/RD7, 85 VCAP, 86 VDD, 87 C1RX/RF0, 88 C1TX/RF1, 89 C2TX/RG1, 90 C2RX/RG0, 91 AN22/CN22/RA6, 92 AN23/CN23/RA7, 93 PWM1L/RE0, 94 PWM1H/RE1, 95 RG14, 96 RG12, 97 RG13, 98 PWM2L/RE2, 99 PWM2H/RE3, 100 PWM3L/RE4

## DSPIC33FJ128MC804
designator *  value DSPIC33FJ128MC804  Reference: U
40MIPS, 128k Flash, 16k SRAM, ECAN, 16-bit DAC; ki_keywords: 16-bit Digital Signal Controller Microchip dsPIC Motor Control; ki_fp_filters: QFN?44*1EP*8x8mm*P0.65mm* TQFP?44*10x10mm*P0.8mm*; Datasheet: http://ww1.microchip.com/downloads/en/DeviceDoc/70291G.pdf; Description_: 40MIPS, 128k Flash, 16k SRAM, ECAN, 16-bit DAC
pins: 1 SDA1/RP9/CN21/PMD3/RB9, 2 PWM2H1/RP22/CN18/PMA1/RC6, 3 PWM2L1/RP23/CN17/PMA0/RC7, 4 RP24/CN20/PMA5/RC8, 5 RP25/CN19/PMA6/RC9, 6 VSS, 7 VCAP, 8 PGED2/PWM1H3/RP10/CN16/PMD2/RB10, 9 PGEC2/PWM1L3/RP11/CN15/PMD1/RB11, 10 PWM1H2/DAC1RP/RP12/CN14/PMD0/RB12, 11 PWM1L2/DAC1RN/RP13/CN13/PMRD/RB13, 12 TMS/PMA10/RA10, 13 TCK/PMA7/RA7, 14 PWM1H1/DAC1LP/RTCC/RP14/CN12/PMWR/RB14, 15 PWM1L/DAC1LN/RP15/CN11/PMCS1/RB15, 16 AVSS, 17 AVDD, 18 ~{{MCLR}}, 19 AN0/VREF+/CN2/RA0, 20 AN1/VREF-/CN3/RA1, 21 PGED1/AN2/C2IN-/RP0/CN4/RB0, 22 PGEC1/AN3/C2IN+/RP1/CN5/RB1, 23 AN4/C1IN-/RP2/CN6/RB2, 24 AN5/C1IN+/RP3/CN7/RB3, 25 AN6/DAC1RM/RP16/CN8/RC0, 26 AN7/DAC1LM/RP17/CN9/RC1, 27 AN8/CVREF/RP18/PMA2/CN10/RC2, 28 VDD, 29 VSS, 30 OSC1/CLKI/CN30/RA2, 31 OSC2/CLKO/CN29/RA3, 32 TDO/PMA8/RA8, 33 SOSCI/RP4/CN1/RB4, 34 SOSCO/T1CK/CN0/RA4, 35 TDI/PMA9/RA9, 36 RP19/CN28/PMBE/RC3, 37 RP20/CN25/PMA4/RC4, 38 RP21/CN26/PMA3/RC5, 39 VSS, 40 VDD, 41 PGED3/ASDA1/RP5/CN27/PMD7/RB5, 42 PGEC3/ASCL1/RP6/CN24/PMD6/RB6, 43 INT0/RP7/CN23/PMD5/RB7, 44 SCL1/RP8/CN22/PMD4/RB8

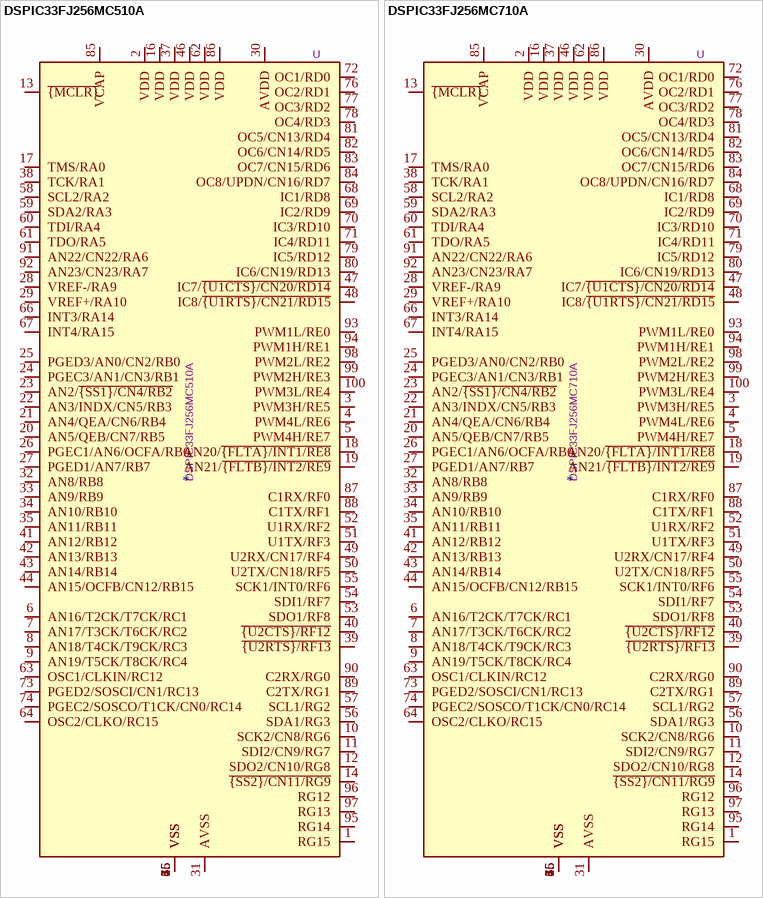
[diagram p3: symbols DSPIC33FJ256MC510A to DSPIC33FJ256MC710A]

## DSPIC33FJ256MC510A
designator *  value DSPIC33FJ256MC510A  Reference: U
High-Performance, 16-bit Digital Signal Controller, 40MIPS, 256k Flash, 16k SRAM, TQFP-100; ki_keywords: 16-bit Digital Signal Controller Microchip dsPIC; ki_fp_filters: TQFP*12x12mm*P0.4mm* TQFP*14x14mm*P0.5mm*; Datasheet: http://ww1.microchip.com/downloads/en/DeviceDoc/70594C.pdf; Description_: High-Performance, 16-bit Digital Signal Controller, 40MIPS, 256k Flash, 16k SRAM, TQFP-100
pins: 1 RG15, 2 VDD, 3 PWM3H/RE5, 4 PWM4L/RE6, 5 PWM4H/RE7, 6 AN16/T2CK/T7CK/RC1, 7 AN17/T3CK/T6CK/RC2, 8 AN18/T4CK/T9CK/RC3, 9 AN19/T5CK/T8CK/RC4, 10 SCK2/CN8/RG6, 11 SDI2/CN9/RG7, 12 SDO2/CN10/RG8, 13 ~{{MCLR}}, 14 ~{{SS2}/CN11/RG9}, 15 VSS, 16 VDD, 17 TMS/RA0, 18 AN20/~{{FLTA}/INT1/RE8}, 19 AN21/~{{FLTB}/INT2/RE9}, 20 AN5/QEB/CN7/RB5, 21 AN4/QEA/CN6/RB4, 22 AN3/INDX/CN5/RB3, 23 AN2/~{{SS1}/CN4/RB2}, 24 PGEC3/AN1/CN3/RB1, 25 PGED3/AN0/CN2/RB0, 26 PGEC1/AN6/OCFA/RB6, 27 PGED1/AN7/RB7, 28 VREF-/RA9, 29 VREF+/RA10, 30 AVDD, 31 AVSS, 32 AN8/RB8, 33 AN9/RB9, 34 AN10/RB10, 35 AN11/RB11, 36 VSS, 37 VDD, 38 TCK/RA1, 39 ~{{U2RTS}/RF13}, 40 ~{{U2CTS}/RF12}, 41 AN12/RB12, 42 AN13/RB13, 43 AN14/RB14, 44 AN15/OCFB/CN12/RB15, 45 VSS, 46 VDD, 47 IC7/~{{U1CTS}/CN20/RD14}, 48 IC8/~{{U1RTS}/CN21/RD15}, 49 U2RX/CN17/RF4, 50 U2TX/CN18/RF5, 51 U1TX/RF3, 52 U1RX/RF2, 53 SDO1/RF8, 54 SDI1/RF7, 55 SCK1/INT0/RF6, 56 SDA1/RG3, 57 SCL1/RG2, 58 SCL2/RA2, 59 SDA2/RA3, 60 TDI/RA4, 61 TDO/RA5, 62 VDD, 63 OSC1/CLKIN/RC12, 64 OSC2/CLKO/RC15, 65 VSS, 66 INT3/RA14, 67 INT4/RA15, 68 IC1/RD8, 69 IC2/RD9, 70 IC3/RD10, 71 IC4/RD11, 72 OC1/RD0, 73 PGED2/SOSCI/CN1/RC13, 74 PGEC2/SOSCO/T1CK/CN0/RC14, 75 VSS, 76 OC2/RD1, 77 OC3/RD2, 78 OC4/RD3, 79 IC5/RD12, 80 IC6/CN19/RD13, 81 OC5/CN13/RD4, 82 OC6/CN14/RD5, 83 OC7/CN15/RD6, 84 OC8/UPDN/CN16/RD7, 85 VCAP, 86 VDD, 87 C1RX/RF0, 88 C1TX/RF1, 89 C2TX/RG1, 90 C2RX/RG0, 91 AN22/CN22/RA6, 92 AN23/CN23/RA7, 93 PWM1L/RE0, 94 PWM1H/RE1, 95 RG14, 96 RG12, 97 RG13, 98 PWM2L/RE2, 99 PWM2H/RE3, 100 PWM3L/RE4

## DSPIC33FJ256MC710A
designator *  value DSPIC33FJ256MC710A  Reference: U
High-Performance, 16-bit Digital Signal Controller, 40MIPS, 256k Flash, 30k SRAM, TQFP-100; ki_keywords: 16-bit Digital Signal Controller Microchip dsPIC; ki_fp_filters: TQFP*12x12mm*P0.4mm* TQFP*14x14mm*P0.5mm*; Datasheet: http://ww1.microchip.com/downloads/en/DeviceDoc/70594C.pdf; Description_: High-Performance, 16-bit Digital Signal Controller, 40MIPS, 256k Flash, 30k SRAM, TQFP-100
pins: 1 RG15, 2 VDD, 3 PWM3H/RE5, 4 PWM4L/RE6, 5 PWM4H/RE7, 6 AN16/T2CK/T7CK/RC1, 7 AN17/T3CK/T6CK/RC2, 8 AN18/T4CK/T9CK/RC3, 9 AN19/T5CK/T8CK/RC4, 10 SCK2/CN8/RG6, 11 SDI2/CN9/RG7, 12 SDO2/CN10/RG8, 13 ~{{MCLR}}, 14 ~{{SS2}/CN11/RG9}, 15 VSS, 16 VDD, 17 TMS/RA0, 18 AN20/~{{FLTA}/INT1/RE8}, 19 AN21/~{{FLTB}/INT2/RE9}, 20 AN5/QEB/CN7/RB5, 21 AN4/QEA/CN6/RB4, 22 AN3/INDX/CN5/RB3, 23 AN2/~{{SS1}/CN4/RB2}, 24 PGEC3/AN1/CN3/RB1, 25 PGED3/AN0/CN2/RB0, 26 PGEC1/AN6/OCFA/RB6, 27 PGED1/AN7/RB7, 28 VREF-/RA9, 29 VREF+/RA10, 30 AVDD, 31 AVSS, 32 AN8/RB8, 33 AN9/RB9, 34 AN10/RB10, 35 AN11/RB11, 36 VSS, 37 VDD, 38 TCK/RA1, 39 ~{{U2RTS}/RF13}, 40 ~{{U2CTS}/RF12}, 41 AN12/RB12, 42 AN13/RB13, 43 AN14/RB14, 44 AN15/OCFB/CN12/RB15, 45 VSS, 46 VDD, 47 IC7/~{{U1CTS}/CN20/RD14}, 48 IC8/~{{U1RTS}/CN21/RD15}, 49 U2RX/CN17/RF4, 50 U2TX/CN18/RF5, 51 U1TX/RF3, 52 U1RX/RF2, 53 SDO1/RF8, 54 SDI1/RF7, 55 SCK1/INT0/RF6, 56 SDA1/RG3, 57 SCL1/RG2, 58 SCL2/RA2, 59 SDA2/RA3, 60 TDI/RA4, 61 TDO/RA5, 62 VDD, 63 OSC1/CLKIN/RC12, 64 OSC2/CLKO/RC15, 65 VSS, 66 INT3/RA14, 67 INT4/RA15, 68 IC1/RD8, 69 IC2/RD9, 70 IC3/RD10, 71 IC4/RD11, 72 OC1/RD0, 73 PGED2/SOSCI/CN1/RC13, 74 PGEC2/SOSCO/T1CK/CN0/RC14, 75 VSS, 76 OC2/RD1, 77 OC3/RD2, 78 OC4/RD3, 79 IC5/RD12, 80 IC6/CN19/RD13, 81 OC5/CN13/RD4, 82 OC6/CN14/RD5, 83 OC7/CN15/RD6, 84 OC8/UPDN/CN16/RD7, 85 VCAP, 86 VDD, 87 C1RX/RF0, 88 C1TX/RF1, 89 C2TX/RG1, 90 C2RX/RG0, 91 AN22/CN22/RA6, 92 AN23/CN23/RA7, 93 PWM1L/RE0, 94 PWM1H/RE1, 95 RG14, 96 RG12, 97 RG13, 98 PWM2L/RE2, 99 PWM2H/RE3, 100 PWM3L/RE4